# Altium schematic symbol library Pin.SchLib: 1 symbol
Pins are listed as number, name and electrical type; pins without a type are passive.

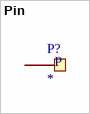
[diagram p0: symbol Pin]

## Pin
designator P?
footprint P
footprint P
footprint P
pins: 0 *
text: P